# Altium footprint library PcbLib1.PcbLib: 98 footprints (part 6 of 7)
Each footprint in its own frame and in the unit in brackets; x right, y up, seen from the top. Pads: shape width x height; smd on the part's side, far side on the other; paste and mask are expansions set on the pad; w line width, h text height; cw(c..) or ccw(c..) is an arc to the next point about the centre after c.
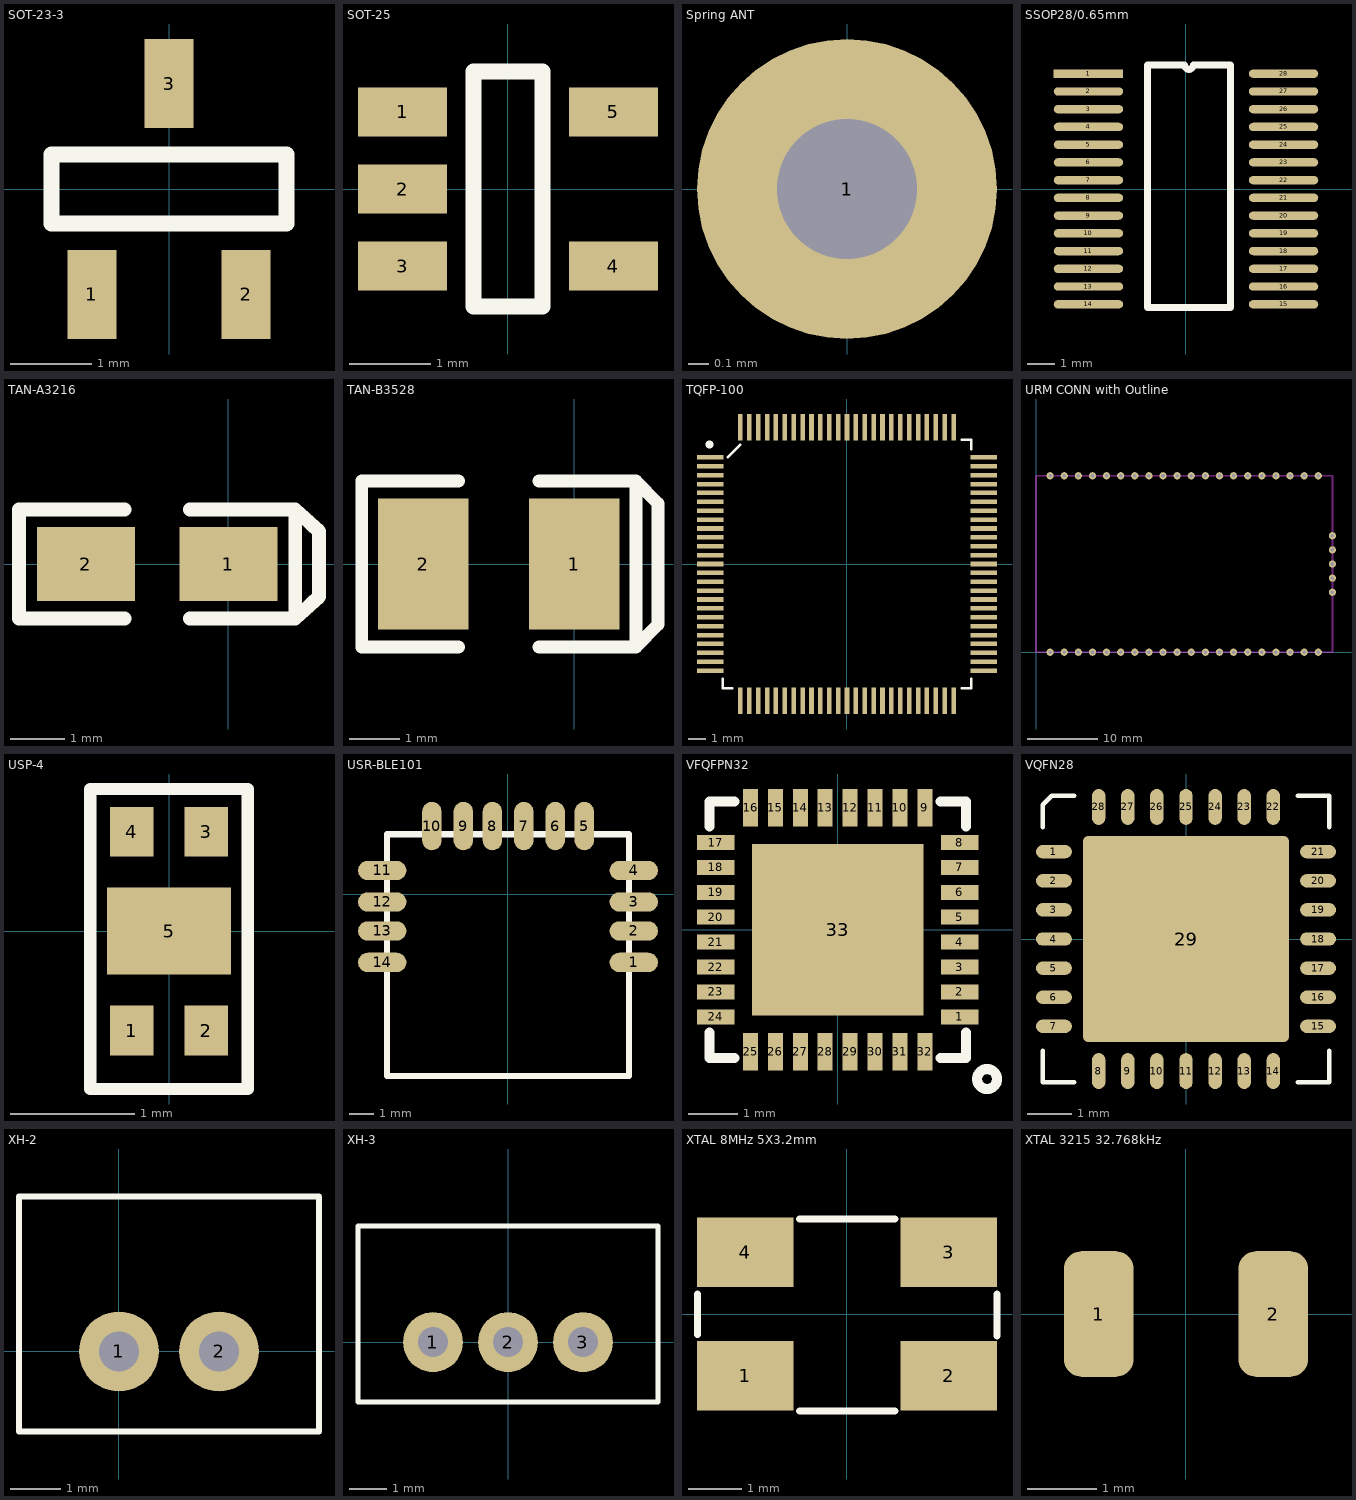
[diagram p5: the footprints below, top view; thin cyan lines are the x and y axes]

## SOT-23-3 [mm]
pads (3):
  rect 0.6x1.1 smd: 1(-0.95,-1.3) 2(0.95,-1.3) 3(0,1.3)
Top Overlay:
  lines w0.2: -1.45,-0.425 -1.45,0.425 1.45,0.425 1.45,-0.425 -1.45,-0.425

## SOT-25 [mm]
pads (5):
  rect 1.1x0.6 smd: 1(-1.3,0.95) 2(-1.3,0) 3(-1.3,-0.95) 4(1.3,-0.95) 5(1.3,0.95)
Top Overlay:
  lines w0.2: -0.425,-1.45 0.425,-1.45 0.425,1.45 -0.425,1.45 -0.425,-1.45

## Spring ANT [mm]
pads (1):
  round 1.5 hole 0.7: 1(0,0)

## SSOP28/0.65mm [mm]
pads (28):
  rect 2.54x0.305 smd: 1(-3.575,4.225)
  oval 2.54x0.305 smd: 2(-3.575,3.575) 3(-3.575,2.925) 4(-3.575,2.275) 5(-3.575,1.625) 6(-3.575,0.975) 7(-3.575,0.325) 8(-3.575,-0.325) 9(-3.575,-0.975) 10(-3.575,-1.625) 11(-3.575,-2.275) 12(-3.575,-2.925) 13(-3.575,-3.575) 14(-3.575,-4.225) 15(3.575,-4.225) 16(3.575,-3.575) 17(3.575,-2.925) 18(3.575,-2.275) 19(3.575,-1.625) 20(3.575,-0.975) 21(3.575,-0.325) 22(3.575,0.325) 23(3.575,0.975) 24(3.575,1.625) 25(3.575,2.275) 26(3.575,2.925) 27(3.575,3.575) 28(3.575,4.225)
Top Overlay:
  lines w0.254: -1.416,-4.348 -1.416,4.542 -0.051,4.542 ccw(c0.108,4.542) 0.267,4.542 1.632,4.542 1.632,-4.348 -1.416,-4.348
3D body: height 1.9, standoff 0, extent -3.812,-5.1 3.988,5.1

## TAN-A3216 [mm]
pads (2):
  rect 1.8x1.35 smd: 1(0,0) 2(-2.62,0)
Top Overlay:
  lines w0.254: -1.91,-1.002 -3.847,-1.002 -3.847,1.002 -1.91,1.002 ; -0.71,-1.002 1.227,-1.002 ; -0.71,1.002 1.227,1.002 ; 1.227,-1.002 1.663,-0.6 1.663,0.6 1.227,1.002 ; 1.227,-1.002 1.227,1.002
3D body: height 1.71, standoff 0, extent -3.01,-0.84 0.39,0.84

## TAN-B3528 [mm]
pads (2):
  rect 1.8x2.6 smd: 1(0,0) 2(-3,0)
Top Overlay:
  lines w0.254: -2.3,-1.65 -4.227,-1.65 -4.227,1.65 -2.3,1.65 ; -0.7,-1.65 1.227,-1.65 ; -0.7,1.65 1.227,1.65 ; 1.227,-1.65 1.227,1.65 ; 1.227,-1.65 1.663,-1.2 1.663,1.2 1.227,1.65
3D body: height 2.03, standoff 0, extent -3.35,-1.465 0.35,1.465

## TQFP-100 [mm]
pads (100):
  rect 1.5x0.254 smd: 1(-7.7,6) 2(-7.7,5.5) 3(-7.7,5) 4(-7.7,4.5) 5(-7.7,4) 6(-7.7,3.5) 7(-7.7,3) 8(-7.7,2.5) 9(-7.7,2) 10(-7.7,1.5) 11(-7.7,1) 12(-7.7,0.5) 13(-7.7,0) 14(-7.7,-0.5) 15(-7.7,-1) 16(-7.7,-1.5) 17(-7.7,-2) 18(-7.7,-2.5) 19(-7.7,-3) 20(-7.7,-3.5) 21(-7.7,-4) 22(-7.7,-4.5) 23(-7.7,-5) 24(-7.7,-5.5) 25(-7.7,-6) 51(7.7,-6) 52(7.7,-5.5) 53(7.7,-5) 54(7.7,-4.5) 55(7.7,-4) 56(7.7,-3.5) 57(7.7,-3) 58(7.7,-2.5) 59(7.7,-2) 60(7.7,-1.5) 61(7.7,-1) 62(7.7,-0.5) 63(7.7,0) 64(7.7,0.5) 65(7.7,1) 66(7.7,1.5) 67(7.7,2) 68(7.7,2.5) 69(7.7,3) 70(7.7,3.5) 71(7.7,4) 72(7.7,4.5) 73(7.7,5) 74(7.7,5.5) 75(7.7,6)
  rect 0.254x1.5 smd: 26(-6,-7.7) 27(-5.5,-7.7) 28(-5,-7.7) 29(-4.5,-7.7) 30(-4,-7.7) 31(-3.5,-7.7) 32(-3,-7.7) 33(-2.5,-7.7) 34(-2,-7.7) 35(-1.5,-7.7) 36(-1,-7.7) 37(-0.5,-7.7) 38(0,-7.7) 39(0.5,-7.7) 40(1,-7.7) 41(1.5,-7.7) 42(2,-7.7) 43(2.5,-7.7) 44(3,-7.7) 45(3.5,-7.7) 46(4,-7.7) 47(4.5,-7.7) 48(5,-7.7) 49(5.5,-7.7) 50(6,-7.7) 76(6,7.7) 77(5.5,7.7) 78(5,7.7) 79(4.5,7.7) 80(4,7.7) 81(3.5,7.7) 82(3,7.7) 83(2.5,7.7) 84(2,7.7) 85(1.5,7.7) 86(1,7.7) 87(0.5,7.7) 88(0,7.7) 89(-0.5,7.7) 90(-1,7.7) 91(-1.5,7.7) 92(-2,7.7) 93(-2.5,7.7) 94(-3,7.7) 95(-3.5,7.7) 96(-4,7.7) 97(-4.5,7.7) 98(-5,7.7) 99(-5.5,7.7) 100(-6,7.7)
Top Overlay:
  circle w0.254: c-7.747,6.731 r0.1
  lines w0.152: -7,-6.457 -7,-7 -6.457,-7 ; -6.712,6.018 -6.018,6.712 ; 6.457,-7 7,-7 7,-6.457 ; 6.457,7 7,7 7,6.457
3D body: height 1.6, standoff 0, extent -8.051,-7.975 7.949,8.025

## URM CONN with Outline [mil]
pads (45):
  round 40 hole 20 mask+2.5: 1(1574.8,983.13) 2(1496.06,983.13) 3(1417.32,983.13) 4(1338.58,983.13) 5(1259.84,983.13) 6(1181.1,983.13) 7(1102.36,983.13) 8(1023.62,983.13) 9(944.88,983.13) 10(866.14,983.13) 11(787.4,983.13) 12(708.66,983.13) 13(629.92,983.13) 14(551.18,983.13) 15(472.44,983.13) 16(393.7,983.13) 17(314.96,983.13) 18(236.22,983.13) 19(157.48,983.13) 20(78.74,983.13) 21(78.74,-1.13) 22(157.48,-1.13) 23(236.22,-1.13) 24(314.96,-1.13) 25(393.7,-1.13) 26(472.44,-1.13) 27(551.18,-1.13) 28(629.92,-1.13) 29(708.66,-1.13) 30(787.4,-1.13) 31(866.14,-1.13) 32(944.88,-1.13) 33(1023.62,-1.13) 34(1102.36,-1.13) 35(1181.1,-1.13) 36(1259.84,-1.13) 37(1338.58,-1.13) 38(1417.32,-1.13) 39(1496.06,-1.13) 40(1574.8,-1.13) G1(1653.54,648.48) G2(1653.54,491) G3(1653.54,333.52) NC(1653.54,412.26) TX(1653.54,569.74)
Keep-Out Layer:
  lines w10: 0,-1.13 1653.54,-1.13 1653.54,983.13 0,983.13 0,-1.13

## USP-4 [mm]
pads (5):
  rect 0.35x0.4 smd paste+0 mask+0.04: 1(-0.3,-0.8) 2(0.3,-0.8) 3(0.3,0.8) 4(-0.3,0.8)
  rect 1x0.7 smd paste+0 mask+0.04: 5(0,0)
Top Overlay:
  lines w0.1: -0.635,-1.27 -0.635,1.143 0.635,1.143 0.635,-1.27 -0.635,-1.27

## USR-BLE101 [mm]
pads (14):
  oval 2x0.8 smd: 1(5.2,-2.818) 2(5.2,-1.518) 3(5.2,-0.318) 4(5.2,0.982) 11(-5.2,0.982) 12(-5.2,-0.318) 13(-5.2,-1.518) 14(-5.2,-2.818)
  oval 0.8x2 smd: 5(3.154,2.818) 6(1.954,2.818) 7(0.654,2.818) 8(-0.646,2.818) 9(-1.846,2.818) 10(-3.146,2.818)
Top Overlay:
  lines w0.254: -5,-7.518 5,-7.518 5,2.482 -5,2.482 -5,-7.518

## VFQFPN32 [mm] "CR95HF"
pads (33):
  rect 0.75x0.3 smd paste+0 mask+0.04: 1(2.45,-1.75) 2(2.45,-1.25) 3(2.45,-0.75) 4(2.45,-0.25) 5(2.45,0.25) 6(2.45,0.75) 7(2.45,1.25) 8(2.45,1.75) 17(-2.45,1.75) 18(-2.45,1.25) 19(-2.45,0.75) 20(-2.45,0.25) 21(-2.45,-0.25) 22(-2.45,-0.75) 23(-2.45,-1.25) 24(-2.45,-1.75)
  rect 0.3x0.75 smd paste+0 mask+0.04: 9(1.75,2.45) 10(1.25,2.45) 11(0.75,2.45) 12(0.25,2.45) 13(-0.25,2.45) 14(-0.75,2.45) 15(-1.25,2.45) 16(-1.75,2.45) 25(-1.75,-2.45) 26(-1.25,-2.45) 27(-0.75,-2.45) 28(-0.25,-2.45) 29(0.25,-2.45) 30(0.75,-2.45) 31(1.25,-2.45) 32(1.75,-2.45)
  rect 3.45x3.45 smd paste-0.025 mask+0.1: 33(0,0)
Top Overlay:
  lines w0.2: -2.575,-2.069 -2.575,-2.575 -2.069,-2.575 ; -2.575,2.069 -2.575,2.575 -2.069,2.575 ; 2.069,-2.575 2.575,-2.575 2.575,-2.069 ; 2.069,2.575 2.575,2.575 2.575,2.069 ; 2.8,-3.007 2.801,-3.021 2.803,-3.035 2.806,-3.048 2.81,-3.062 2.815,-3.075 2.82,-3.088 2.827,-3.1 2.834,-3.112 2.842,-3.123 2.851,-3.134 2.861,-3.144 2.871,-3.153 2.882,-3.162 2.894,-3.17 2.906,-3.177 2.919,-3.183 2.932,-3.188 2.945,-3.192 2.958,-3.196 2.972,-3.198 2.986,-3.199 3,-3.2 3.014,-3.199 3.028,-3.198 3.042,-3.196 3.055,-3.192 3.068,-3.188 3.081,-3.183 3.094,-3.177 3.106,-3.17 3.118,-3.162 3.129,-3.153 3.139,-3.144 3.149,-3.134 3.158,-3.123 3.166,-3.112 3.173,-3.1 3.18,-3.088 3.185,-3.075 3.19,-3.062 3.194,-3.048 3.197,-3.035 3.199,-3.021 3.2,-3.007 3.2,-2.993 3.199,-2.979 3.197,-2.965 3.194,-2.952 3.19,-2.938 3.185,-2.925 3.18,-2.912 3.173,-2.9 3.166,-2.888 3.158,-2.877 3.149,-2.866 3.139,-2.856 3.129,-2.847 3.118,-2.838 3.106,-2.83 3.094,-2.823 3.081,-2.817 3.068,-2.812 3.055,-2.808 3.042,-2.804 3.028,-2.802 3.014,-2.8 3,-2.8 2.986,-2.8 2.972,-2.802 2.958,-2.804 2.945,-2.808 2.932,-2.812 2.919,-2.817 2.906,-2.823 2.894,-2.83 2.882,-2.838 2.871,-2.847 2.861,-2.856 2.851,-2.866 2.842,-2.877 2.834,-2.888 2.827,-2.9 2.82,-2.912 2.815,-2.925 2.81,-2.938 2.806,-2.952 2.803,-2.965 2.801,-2.979 2.8,-2.993 2.8,-3.007

## VQFN28 [mm]
pads (29):
  oval 0.8x0.3 smd mask+0.05: 1(-2.95,1.95) 2(-2.95,1.3) 3(-2.95,0.65) 4(-2.95,0) 5(-2.95,-0.65) 6(-2.95,-1.3) 7(-2.95,-1.95) 15(2.95,-1.95) 16(2.95,-1.3) 17(2.95,-0.65) 18(2.95,0) 19(2.95,0.65) 20(2.95,1.3) 21(2.95,1.95)
  oval 0.3x0.8 smd mask+0.05: 8(-1.95,-2.95) 9(-1.3,-2.95) 10(-0.65,-2.95) 11(0,-2.95) 12(0.65,-2.95) 13(1.3,-2.95) 14(1.95,-2.95) 22(1.95,2.95) 23(1.3,2.95) 24(0.65,2.95) 25(0,2.95) 26(-0.65,2.95) 27(-1.3,2.95) 28(-1.95,2.95)
  rrect5% 4.6x4.6 smd paste-3.3 mask+0.05: 29(0,0)
Top Overlay:
  lines w0.1: -3.2,-2.5 -3.2,-3.2 -2.5,-3.2 ; -3.2,2.5 -3.2,3 -3,3.2 -2.5,3.2 ; 2.5,-3.2 3.2,-3.2 3.2,-2.5 ; 2.5,3.2 3.2,3.2 3.2,2.5
Top Paste:
  region: -1.6,-0.8 -1.6,-1.6 -0.8,-1.6 -0.8,-0.8
  region: 0.8,-0.8 0.8,-1.6 1.6,-1.6 1.6,-0.8
  region: -0.4,-0.8 -0.4,-1.6 0.4,-1.6 0.4,-0.8
  region: 0.8,0.4 0.8,-0.4 1.6,-0.4 1.6,0.4
  region: -1.6,1.6 -1.6,0.8 -0.8,0.8 -0.8,1.6
  region: -0.4,1.6 -0.4,0.8 0.4,0.8 0.4,1.6
  region: -1.6,0.4 -1.6,-0.4 -0.8,-0.4 -0.8,0.4
  region: -0.4,0.4 -0.4,-0.4 0.4,-0.4 0.4,0.4
  region: 0.8,1.6 0.8,0.8 1.6,0.8 1.6,1.6

## XH-2 [mm]
pads (2):
  round 1.6 hole 0.8: 1(0,0) 2(2,0)
Top Overlay:
  lines w0.127: -2,-1.6 -2,0 -2,3.1 2,3.1 4,3.1 4,0 4,-1.6 -2,-1.6

## XH-3 [mm]
pads (3):
  round 1.6 hole 0.8: 1(-2,0) 2(0,0) 3(2,0)
Top Overlay:
  lines w0.127: -4,-1.6 0,-1.6 4,-1.6 4,0 4,3.1 0,3.1 -4,3.1 -4,0 -4,-1.6

## XTAL 8MHz 5X3.2mm [mm]
pads (4):
  rect 1.8x1.3 smd: 1(-1.9,-1.15) 2(1.9,-1.15) 3(1.9,1.15) 4(-1.9,1.15)
Top Overlay:
  lines w0.127: -2.789,-0.388 -2.789,0.374 ; -0.884,-1.81 0.894,-1.81 ; -0.884,1.771 0.894,1.771 ; 2.799,-0.413 2.799,0.374

## XTAL 3215 32.768kHz [mm]
pads (2):
  rrect50% 1x1.8 smd: 1(-1.25,0) 2(1.25,0)